# Altium footprint library PcbLib1.PcbLib: 1 footprints
Each footprint in its own frame and in the unit in brackets; x right, y up, seen from the top. Pads: shape width x height; smd on the part's side, far side on the other; paste and mask are expansions set on the pad; w line width, h text height; cw(c..) or ccw(c..) is an arc to the next point about the centre after c.
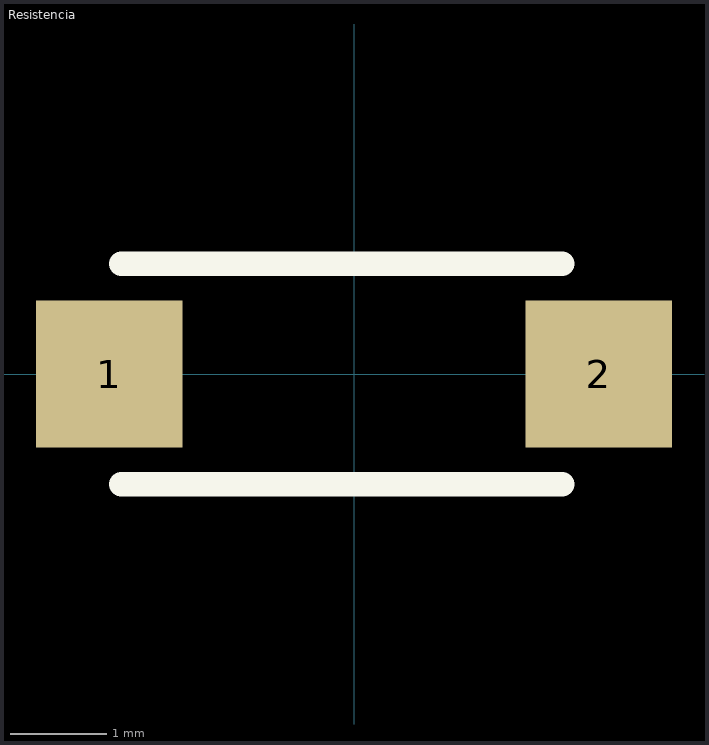
[diagram p0: the footprint, top view; thin cyan lines are the x and y axes]

## Resistencia [mil]
pads (2):
  rect 60x60 smd: 1(-100,0) 2(100,0)
Top Overlay:
  lines w10: -95,-45 85,-45 ; -95,45 85,45
3D body: height 10, standoff 0, extent -95,-45 85,45